# Altium schematic symbol library SCH - MCU - STM32 - ST MICROELECTRONICS STM32WBA50KGUX UFQFPN32.SchLib: 1 symbol
Pins are listed as number, name and electrical type; pins without a type are passive.

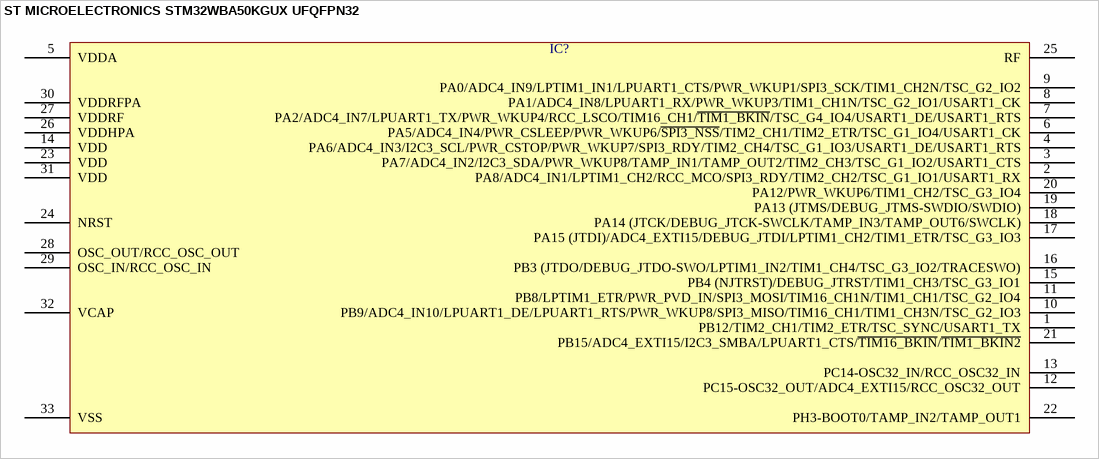
[diagram p0: symbol ST MICROELECTRONICS STM32WBA50KGUX UFQFPN32]

## ST MICROELECTRONICS STM32WBA50KGUX UFQFPN32
designator IC?  (value not drawn)
pins: 1 PB12/TIM2_CH1/TIM2_ETR/TSC_SYNC/USART1_TX, 2 PA8/ADC4_IN1/LPTIM1_CH2/RCC_MCO/SPI3_RDY/TIM2_CH2/TSC_G1_IO1/USART1_RX, 3 PA7/ADC4_IN2/I2C3_SDA/PWR_WKUP8/TAMP_IN1/TAMP_OUT2/TIM2_CH3/TSC_G1_IO2/USART1_CTS, 4 PA6/ADC4_IN3/I2C3_SCL/PWR_CSTOP/PWR_WKUP7/SPI3_RDY/TIM2_CH4/TSC_G1_IO3/USART1_DE/USART1_RTS, 5 VDDA, 6 PA5/ADC4_IN4/PWR_CSLEEP/PWR_WKUP6/~{SPI3_NSS}/TIM2_CH1/TIM2_ETR/TSC_G1_IO4/USART1_CK, 7 PA2/ADC4_IN7/LPUART1_TX/PWR_WKUP4/RCC_LSCO/TIM16_CH1/~{TIM1_BKIN}/TSC_G4_IO4/USART1_DE/USART1_RTS, 8 PA1/ADC4_IN8/LPUART1_RX/PWR_WKUP3/TIM1_CH1N/TSC_G2_IO1/USART1_CK, 9 PA0/ADC4_IN9/LPTIM1_IN1/LPUART1_CTS/PWR_WKUP1/SPI3_SCK/TIM1_CH2N/TSC_G2_IO2, 10 PB9/ADC4_IN10/LPUART1_DE/LPUART1_RTS/PWR_WKUP8/SPI3_MISO/TIM16_CH1/TIM1_CH3N/TSC_G2_IO3, 11 PB8/LPTIM1_ETR/PWR_PVD_IN/SPI3_MOSI/TIM16_CH1N/TIM1_CH1/TSC_G2_IO4, 12 PC15-OSC32_OUT/ADC4_EXTI15/RCC_OSC32_OUT, 13 PC14-OSC32_IN/RCC_OSC32_IN, 14 VDD, 15 PB4 (NJTRST)/DEBUG_JTRST/TIM1_CH3/TSC_G3_IO1, 16 PB3 (JTDO/DEBUG_JTDO-SWO/LPTIM1_IN2/TIM1_CH4/TSC_G3_IO2/TRACESWO), 17 PA15 (JTDI)/ADC4_EXTI15/DEBUG_JTDI/LPTIM1_CH2/TIM1_ETR/TSC_G3_IO3, 18 PA14 (JTCK/DEBUG_JTCK-SWCLK/TAMP_IN3/TAMP_OUT6/SWCLK), 19 PA13 (JTMS/DEBUG_JTMS-SWDIO/SWDIO), 20 PA12/PWR_WKUP6/TIM1_CH2/TSC_G3_IO4, 21 PB15/ADC4_EXTI15/I2C3_SMBA/LPUART1_CTS/~{TIM16_BKIN}/~{TIM1_BKIN2}, 22 PH3-BOOT0/TAMP_IN2/TAMP_OUT1, 23 VDD, 24 NRST, 25 RF, 26 VDDHPA, 27 VDDRF, 28 OSC_OUT/RCC_OSC_OUT, 29 OSC_IN/RCC_OSC_IN, 30 VDDRFPA, 31 VDD, 32 VCAP, 33 VSS